# EAGLE library part M06 (library hw2)
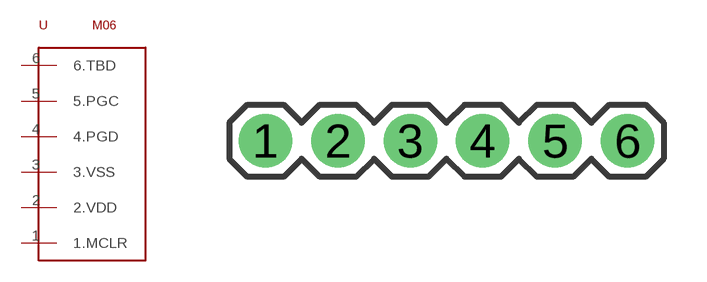
[diagram p10: symbol with the pads of 1X06; footprint 1X06]

Designator prefix -

## M06  [1X06]
1  1.MCLR
2  2.VDD
3  3.VSS
4  4.PGD
5  5.PGC
6  6.TBD

## Footprint 1X06 (pad centres in mm)
drill 1.016 pad 1.88: 1 0,0; 2 2.54,0; 3 5.08,0; 4 7.62,0; 5 10.16,0; 6 12.7,0